# EAGLE library part VNC2-48 (library ftdichip-6)
Vinculum-II 2nd Generation Dual USB Host Controller 48-pin device symbol is compatible* with VNC1L symbol to allow easy replacement on schematic. *please be noticed that VREG_OUT pin in VNC2 has different functionality than PLLFLTR pin in VNC1L.
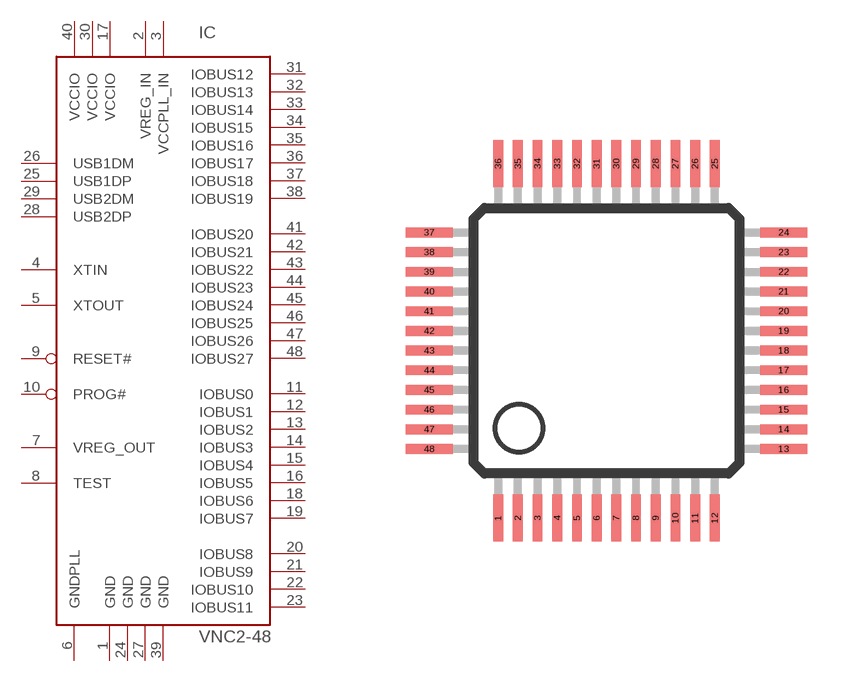
[diagram p10: symbol with the pads of LQFP48; footprint LQFP48]

Designator prefix IC

## VNC2-48L1B  [LQFP48]
1  GND  pwr
2  VREG_IN  pwr
3  VCCPLL_IN  pwr
4  XTIN  in
5  XTOUT  out
6  GNDPLL  pwr
7  VREG_OUT  out
8  TEST  in
9  RESET#  in
10  PROG#  in
11  IOBUS0
12  IOBUS1
13  IOBUS2
14  IOBUS3
15  IOBUS4
16  IOBUS5
17  VCCIO  pwr
18  IOBUS6
19  IOBUS7
20  IOBUS8
21  IOBUS9
22  IOBUS10
23  IOBUS11
24  GND  pwr
25  USB1DP
26  USB1DM
27  GND  pwr
28  USB2DP
29  USB2DM
30  VCCIO  pwr
31  IOBUS12
32  IOBUS13
33  IOBUS14
34  IOBUS15
35  IOBUS16
36  IOBUS17
37  IOBUS18
38  IOBUS19
39  GND  pwr
40  VCCIO  pwr
41  IOBUS20
42  IOBUS21
43  IOBUS22
44  IOBUS23
45  IOBUS24
46  IOBUS25
47  IOBUS26
48  IOBUS27

## Footprint LQFP48 (pad centres in mm)
LQFP-48 package 7x7 mm case, 0.5 mm lead pitch
smd 0.25 x 1.2: 1 -2.75,-4.5; 2 -2.25,-4.5; 3 -1.75,-4.5; 4 -1.25,-4.5; 5 -0.75,-4.5; 6 -0.25,-4.5; 7 0.25,-4.5; 8 0.75,-4.5; 9 1.25,-4.5; 10 1.75,-4.5; 11 2.25,-4.5; 12 2.75,-4.5; 25 2.75,4.5; 26 2.25,4.5; 27 1.75,4.5; 28 1.25,4.5; 29 0.75,4.5; 30 0.25,4.5; 31 -0.25,4.5; 32 -0.75,4.5; 33 -1.25,4.5; 34 -1.75,4.5; 35 -2.25,4.5; 36 -2.75,4.5
smd 1.2 x 0.25: 13 4.5,-2.75; 14 4.5,-2.25; 15 4.5,-1.75; 16 4.5,-1.25; 17 4.5,-0.75; 18 4.5,-0.25; 19 4.5,0.25; 20 4.5,0.75; 21 4.5,1.25; 22 4.5,1.75; 23 4.5,2.25; 24 4.5,2.75; 37 -4.5,2.75; 38 -4.5,2.25; 39 -4.5,1.75; 40 -4.5,1.25; 41 -4.5,0.75; 42 -4.5,0.25; 43 -4.5,-0.25; 44 -4.5,-0.75; 45 -4.5,-1.25; 46 -4.5,-1.75; 47 -4.5,-2.25; 48 -4.5,-2.75